# EAGLE library part RASTER_2_45 (library raster)
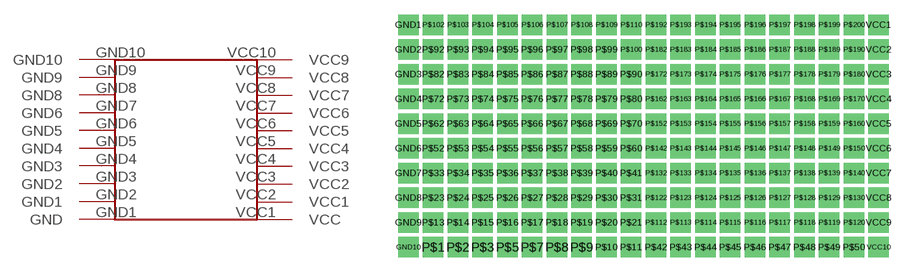
[diagram p0: symbol with the pads of RASTER_2_54; footprint RASTER_2_54]

Designator prefix -

## RASTER_2_45  [RASTER_2_54]
GND1  GND
GND2  GND1
GND3  GND2
GND4  GND3
GND5  GND4
GND6  GND5
GND7  GND6
GND8  GND8
GND9  GND9
GND10  GND10
VCC1  VCC
VCC2  VCC1
VCC3  VCC2
VCC4  VCC3
VCC5  VCC4
VCC6  VCC5
VCC7  VCC6
VCC8  VCC7
VCC9  VCC8
VCC10  VCC9

## Footprint RASTER_2_54 (pad centres in mm)
drill 1.4 square: GND1 0,22.86; GND2 0,20.32; GND3 0,17.78; GND4 0,15.24; GND5 0,12.7; GND6 0,10.16; GND7 0,7.62; GND8 0,5.08; GND9 0,2.54; GND10 0,0; P$1 2.54,0; P$2 5.08,0; P$3 7.62,0; P$5 10.16,0; P$7 12.7,0; P$8 15.24,0; P$9 17.78,0; P$10 20.32,0; P$11 22.86,0; P$13 2.54,2.54; P$14 5.08,2.54; P$15 7.62,2.54; P$16 10.16,2.54; P$17 12.7,2.54; P$18 15.24,2.54; P$19 17.78,2.54; P$20 20.32,2.54; P$21 22.86,2.54; P$23 2.54,5.08; P$24 5.08,5.08; P$25 7.62,5.08; P$26 10.16,5.08; P$27 12.7,5.08; P$28 15.24,5.08; P$29 17.78,5.08; P$30 20.32,5.08; P$31 22.86,5.08; P$33 2.54,7.62; P$34 5.08,7.62; P$35 7.62,7.62; P$36 10.16,7.62; P$37 12.7,7.62; P$38 15.24,7.62; P$39 17.78,7.62; P$40 20.32,7.62; P$41 22.86,7.62; P$42 25.4,0; P$43 27.94,0; P$44 30.48,0; P$45 33.02,0; P$46 35.56,0; P$47 38.1,0; P$48 40.64,0; P$49 43.18,0; P$50 45.72,0; P$52 2.54,10.16; P$53 5.08,10.16; P$54 7.62,10.16; P$55 10.16,10.16; P$56 12.7,10.16; P$57 15.24,10.16; P$58 17.78,10.16; P$59 20.32,10.16; P$60 22.86,10.16; P$62 2.54,12.7; P$63 5.08,12.7; P$64 7.62,12.7; P$65 10.16,12.7; P$66 12.7,12.7; P$67 15.24,12.7; P$68 17.78,12.7; P$69 20.32,12.7; P$70 22.86,12.7; P$72 2.54,15.24; P$73 5.08,15.24; P$74 7.62,15.24; P$75 10.16,15.24; P$76 12.7,15.24; P$77 15.24,15.24; P$78 17.78,15.24; P$79 20.32,15.24; P$80 22.86,15.24; P$82 2.54,17.78; P$83 5.08,17.78; P$84 7.62,17.78; P$85 10.16,17.78; P$86 12.7,17.78; P$87 15.24,17.78; P$88 17.78,17.78; P$89 20.32,17.78; P$90 22.86,17.78; P$92 2.54,20.32; P$93 5.08,20.32; P$94 7.62,20.32; P$95 10.16,20.32; P$96 12.7,20.32; P$97 15.24,20.32; P$98 17.78,20.32; P$99 20.32,20.32; P$100 22.86,20.32; P$102 2.54,22.86; P$103 5.08,22.86; P$104 7.62,22.86; P$105 10.16,22.86; P$106 12.7,22.86; P$107 15.24,22.86; P$108 17.78,22.86; P$109 20.32,22.86; P$110 22.86,22.86; P$112 25.4,2.54; P$113 27.94,2.54; P$114 30.48,2.54; P$115 33.02,2.54; P$116 35.56,2.54; P$117 38.1,2.54; P$118 40.64,2.54; P$119 43.18,2.54; P$120 45.72,2.54; P$122 25.4,5.08; P$123 27.94,5.08; P$124 30.48,5.08; P$125 33.02,5.08; P$126 35.56,5.08; P$127 38.1,5.08; P$128 40.64,5.08; P$129 43.18,5.08; P$130 45.72,5.08; P$132 25.4,7.62; P$133 27.94,7.62; P$134 30.48,7.62; P$135 33.02,7.62; P$136 35.56,7.62; P$137 38.1,7.62; P$138 40.64,7.62; P$139 43.18,7.62; P$140 45.72,7.62; P$142 25.4,10.16; P$143 27.94,10.16; P$144 30.48,10.16; P$145 33.02,10.16; P$146 35.56,10.16; P$147 38.1,10.16; P$148 40.64,10.16; P$149 43.18,10.16; P$150 45.72,10.16; P$152 25.4,12.7; P$153 27.94,12.7; P$154 30.48,12.7; P$155 33.02,12.7; P$156 35.56,12.7; P$157 38.1,12.7; P$158 40.64,12.7; P$159 43.18,12.7; P$160 45.72,12.7; P$162 25.4,15.24; P$163 27.94,15.24; P$164 30.48,15.24; P$165 33.02,15.24; P$166 35.56,15.24; P$167 38.1,15.24; P$168 40.64,15.24; P$169 43.18,15.24; P$170 45.72,15.24; P$172 25.4,17.78; P$173 27.94,17.78; P$174 30.48,17.78; P$175 33.02,17.78; P$176 35.56,17.78; P$177 38.1,17.78; P$178 40.64,17.78; P$179 43.18,17.78; P$180 45.72,17.78; P$182 25.4,20.32; P$183 27.94,20.32; P$184 30.48,20.32; P$185 33.02,20.32; P$186 35.56,20.32; P$187 38.1,20.32; P$188 40.64,20.32; P$189 43.18,20.32; P$190 45.72,20.32; P$192 25.4,22.86; P$193 27.94,22.86; P$194 30.48,22.86; P$195 33.02,22.86; P$196 35.56,22.86; P$197 38.1,22.86; P$198 40.64,22.86; P$199 43.18,22.86; P$200 45.72,22.86; VCC1 48.26,22.86; VCC2 48.26,20.32; VCC3 48.26,17.78; VCC4 48.26,15.24; VCC5 48.26,12.7; VCC6 48.26,10.16; VCC7 48.26,7.62; VCC8 48.26,5.08; VCC9 48.26,2.54; VCC10 48.26,0